# EAGLE library part 1-530844-7 (library 1-530844-7-PCBEDGE)
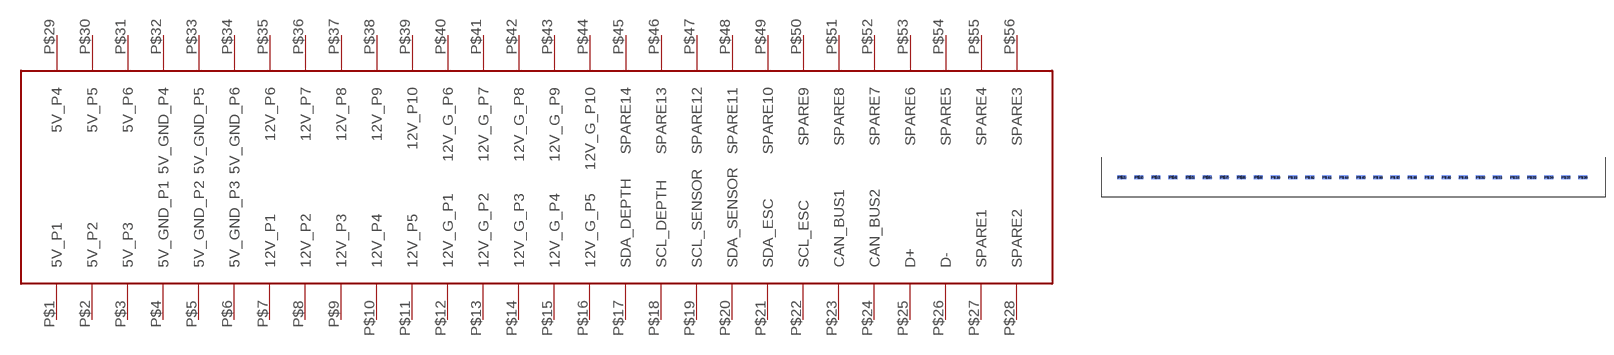
[diagram p0: symbol with the pads of 1-530844-7; footprint 1-530844-7]

Designator prefix -

## 1-530844-7  [1-530844-7]
P$1  5V_P1
P$2  5V_P2
P$3  5V_P3
P$4  5V_GND_P1
P$5  5V_GND_P2
P$6  5V_GND_P3
P$7  12V_P1
P$8  12V_P2
P$9  12V_P3
P$10  12V_P4
P$11  12V_P5
P$12  12V_G_P1
P$13  12V_G_P2
P$14  12V_G_P3
P$15  12V_G_P4
P$16  12V_G_P5
P$17  SDA_DEPTH
P$18  SCL_DEPTH
P$19  SCL_SENSOR
P$20  SDA_SENSOR
P$21  SDA_ESC
P$22  SCL_ESC
P$23  CAN_BUS1
P$24  CAN_BUS2
P$25  D+
P$26  D-
P$27  SPARE1
P$28  SPARE2
P$29  5V_P4
P$30  5V_P5
P$31  5V_P6
P$32  5V_GND_P4
P$33  5V_GND_P5
P$34  5V_GND_P6
P$35  12V_P6
P$36  12V_P7
P$37  12V_P8
P$38  12V_P9
P$39  12V_P10
P$40  12V_G_P6
P$41  12V_G_P7
P$42  12V_G_P8
P$43  12V_G_P9
P$44  12V_G_P10
P$45  SPARE14
P$46  SPARE13
P$47  SPARE12
P$48  SPARE11
P$49  SPARE10
P$50  SPARE9
P$51  SPARE8
P$52  SPARE7
P$53  SPARE6
P$54  SPARE5
P$55  SPARE4
P$56  SPARE3

## Footprint 1-530844-7 (pad centres in mm)
smd 1.676 x 0.813: P$1 0,0; P$2 3.175,0; P$3 6.35,0; P$4 9.525,0; P$5 12.7,0; P$6 15.875,0; P$7 19.05,0; P$8 22.225,0; P$9 25.4,0; P$10 28.575,0; P$11 31.75,0; P$12 34.925,0; P$13 38.1,0; P$14 41.275,0; P$15 44.45,0; P$16 47.625,0; P$17 50.8,0; P$18 53.975,0; P$19 57.15,0; P$20 60.325,0; P$21 63.5,0; P$22 66.675,0; P$23 69.85,0; P$24 73.025,0; P$25 76.2,0; P$26 79.375,0; P$27 82.55,0; P$28 85.725,0
smd 1.676 x 0.813 bottom: P$29 0,0; P$30 3.175,0; P$31 6.35,0; P$32 9.525,0; P$33 12.7,0; P$34 15.875,0; P$35 19.05,0; P$36 22.225,0; P$37 25.4,0; P$38 28.575,0; P$39 31.75,0; P$40 34.925,0; P$41 38.1,0; P$42 41.275,0; P$43 44.45,0; P$44 47.625,0; P$45 50.8,0; P$46 53.975,0; P$47 57.15,0; P$48 60.325,0; P$49 63.5,0; P$50 66.675,0; P$51 69.85,0; P$52 73.025,0; P$53 76.2,0; P$54 79.375,0; P$55 82.55,0; P$56 85.725,0